# Altium schematic symbol library SCH - CONTROLLER - CAN - MICROCHIP MCP2515.SCHLIB: 4 symbols
Pins are listed as number, name and electrical type; pins without a type are passive.

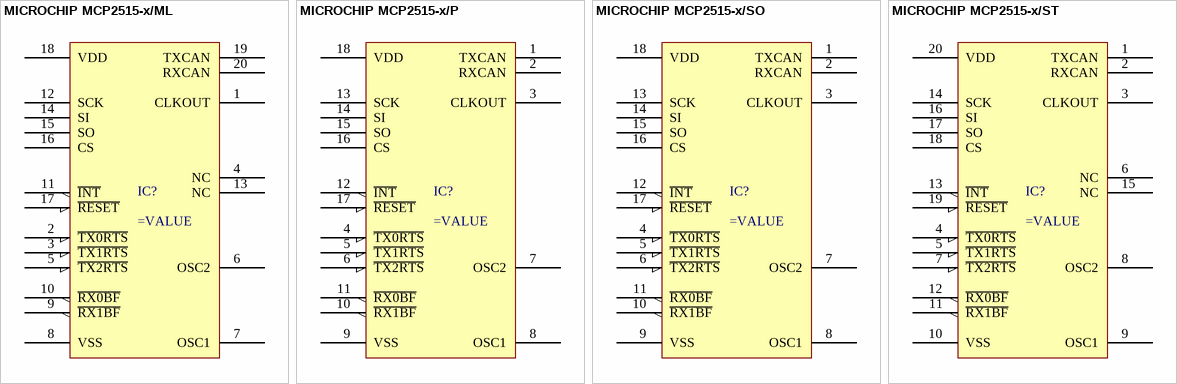
[diagram p0: symbols MICROCHIP MCP2515-x/ML to MICROCHIP MCP2515-x/ST]

## MICROCHIP MCP2515-x/ML
designator IC?
pins: 1 CLKOUT, 2 ~{TX0RTS}, 3 ~{TX1RTS}, 4 NC, 5 ~{TX2RTS}, 6 OSC2, 7 OSC1, 8 VSS, 9 ~{RX1BF}, 10 ~{RX0BF}, 11 ~{INT}, 12 SCK, 13 NC, 14 SI, 15 SO, 16 CS, 17 ~{RESET}, 18 VDD, 19 TXCAN, 20 RXCAN

## MICROCHIP MCP2515-x/P
designator IC?
pins: 1 TXCAN, 2 RXCAN, 3 CLKOUT, 4 ~{TX0RTS}, 5 ~{TX1RTS}, 6 ~{TX2RTS}, 7 OSC2, 8 OSC1, 9 VSS, 10 ~{RX1BF}, 11 ~{RX0BF}, 12 ~{INT}, 13 SCK, 14 SI, 15 SO, 16 CS, 17 ~{RESET}, 18 VDD

## MICROCHIP MCP2515-x/SO
designator IC?
pins: 1 TXCAN, 2 RXCAN, 3 CLKOUT, 4 ~{TX0RTS}, 5 ~{TX1RTS}, 6 ~{TX2RTS}, 7 OSC2, 8 OSC1, 9 VSS, 10 ~{RX1BF}, 11 ~{RX0BF}, 12 ~{INT}, 13 SCK, 14 SI, 15 SO, 16 CS, 17 ~{RESET}, 18 VDD

## MICROCHIP MCP2515-x/ST
designator IC?
pins: 1 TXCAN, 2 RXCAN, 3 CLKOUT, 4 ~{TX0RTS}, 5 ~{TX1RTS}, 6 NC, 7 ~{TX2RTS}, 8 OSC2, 9 OSC1, 10 VSS, 11 ~{RX1BF}, 12 ~{RX0BF}, 13 ~{INT}, 14 SCK, 15 NC, 16 SI, 17 SO, 18 CS, 19 ~{RESET}, 20 VDD